# Altium footprint library SOT-143.PcbLib: 1 footprints
Each footprint in its own frame and in the unit in brackets; x right, y up, seen from the top. Pads: shape width x height; smd on the part's side, far side on the other; paste and mask are expansions set on the pad; w line width, h text height; cw(c..) or ccw(c..) is an arc to the next point about the centre after c.
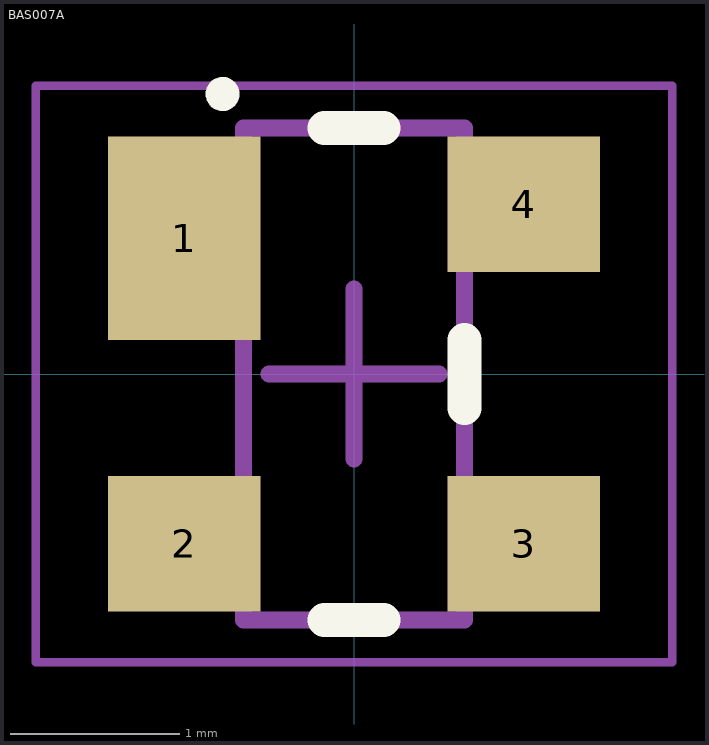
[diagram p0: the footprint, top view; thin cyan lines are the x and y axes]

## BAS007A [mm] "SOT143, 4-Leads, Body 2.90x2.40mm, Pitch 1.90mm, IPC Medium Density"
height 1
pads (4):
  rect 0.9x1.2 smd: 1(-1,0.8)
  rect 0.9x0.8 smd: 2(-1,-1) 3(1,-1) 4(1,1)
Top Overlay:
  circle w0.1: c-0.775,1.65 r0.05
  lines w0.2: -0.175,-1.45 0.175,-1.45 ; -0.175,1.45 0.175,1.45 ; 0.65,-0.2 0.65,0.2
Mechanical 13:
  lines w0.1: -0.65,-1.45 0.65,-1.45 0.65,1.45 -0.65,1.45 -0.65,-1.45
Mechanical 15:
  lines w0.05: -1.875,-1.7 1.875,-1.7 1.875,1.7 -1.875,1.7 -1.875,-1.7
  lines w0.1: -0.5,0 0.5,0 ; 0,-0.5 0,0.5
3D body: height 1, standoff 0.1, extent -0.65,-1.45 0.65,1.45